# Altium footprint library Jump_254.PcbLib: 184 footprints (part 6 of 12)
Each footprint in its own frame and in the unit in brackets; x right, y up, seen from the top. Pads: shape width x height; smd on the part's side, far side on the other; paste and mask are expansions set on the pad; w line width, h text height; cw(c..) or ccw(c..) is an arc to the next point about the centre after c.
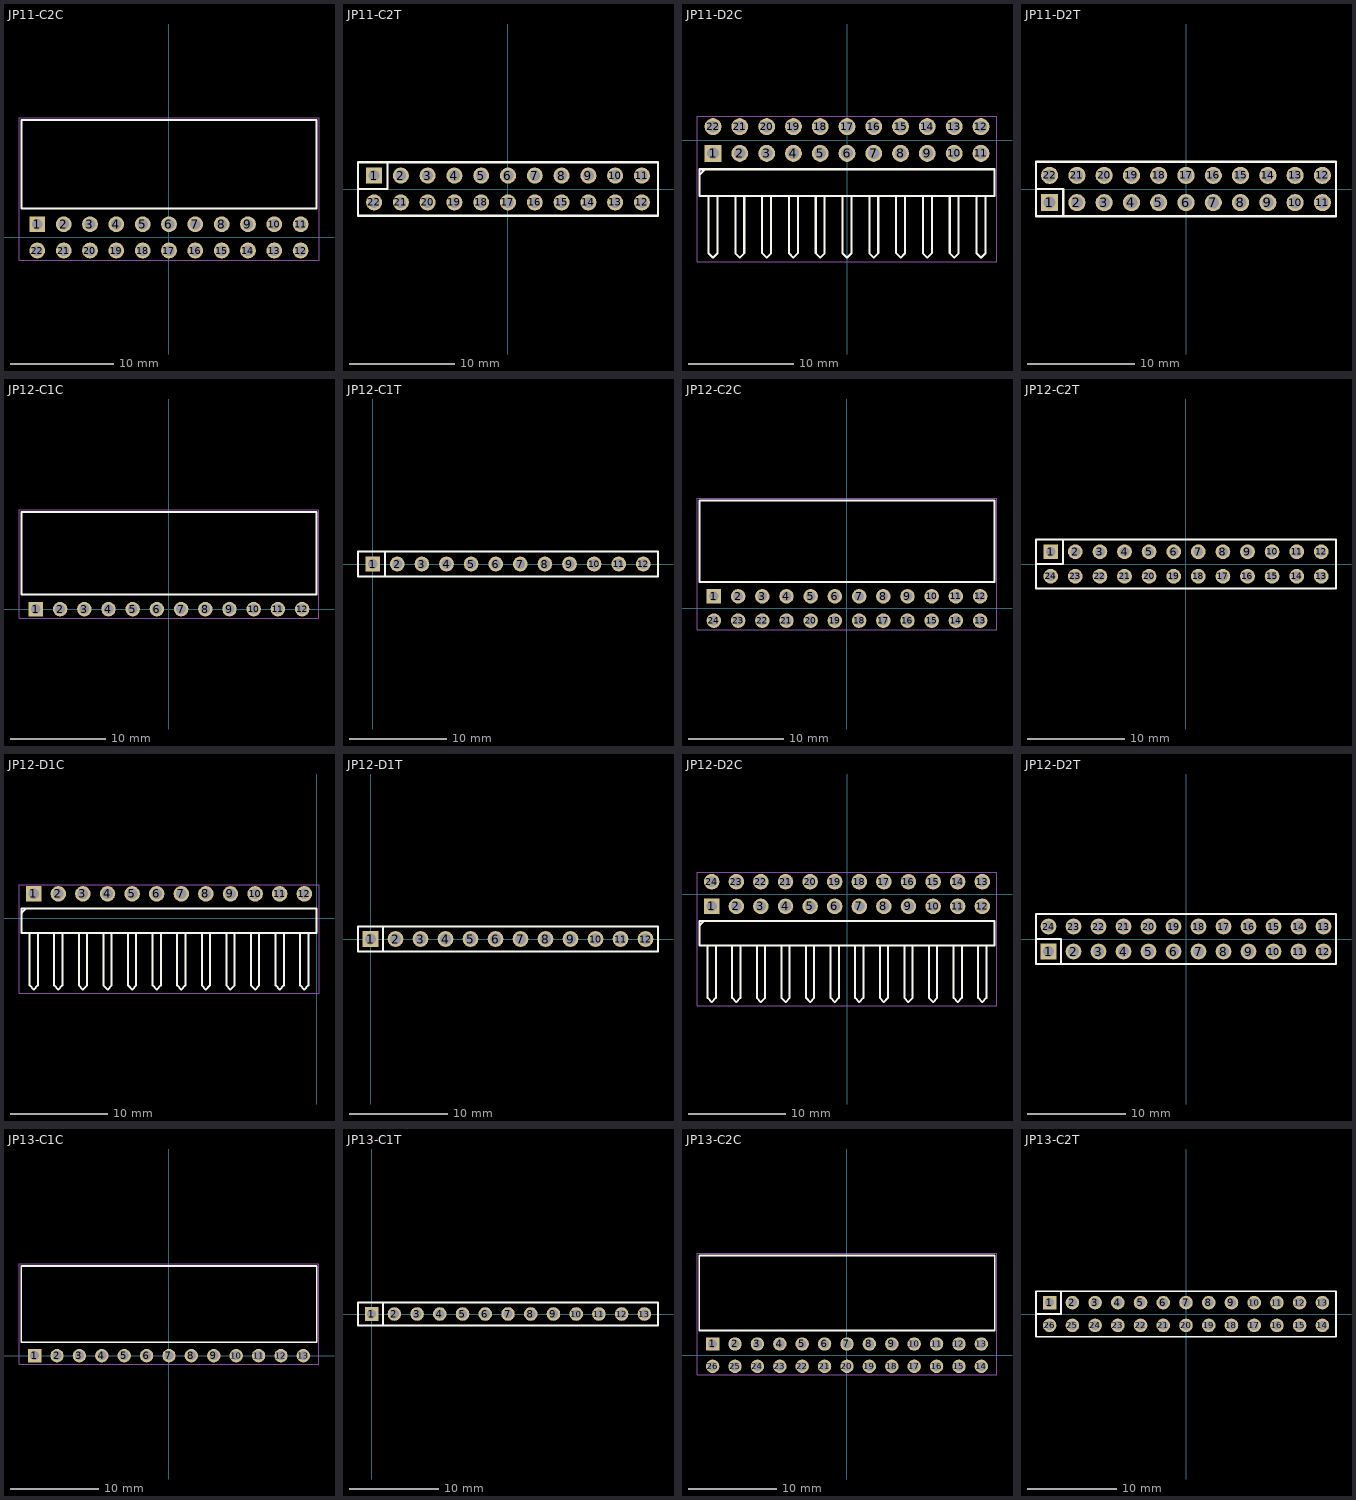
[diagram p5: the footprints below, top view; thin cyan lines are the x and y axes]

## JP11-C2C [mm] "22p 2 rows Right angle"
height 5.08
pads (22):
  rect 1.52x1.52 hole 1.02: 1(-12.7,1.27)
  round 1.52 hole 1.02: 2(-10.16,1.27) 3(-7.62,1.27) 4(-5.08,1.27) 5(-2.54,1.27) 6(0,1.27) 7(2.54,1.27) 8(5.08,1.27) 9(7.62,1.27) 10(10.16,1.27) 11(12.7,1.27) 12(12.7,-1.27) 13(10.16,-1.27) 14(7.62,-1.27) 15(5.08,-1.27) 16(2.54,-1.27) 17(0,-1.27) 18(-2.54,-1.27) 19(-5.08,-1.27) 20(-7.62,-1.27) 21(-10.16,-1.27) 22(-12.7,-1.27)
Top Overlay:
  lines w0.2: -14.224,2.794 14.224,2.794 14.224,11.316 -14.224,11.316 -14.224,2.794
Mechanical 15:
  lines w0.1: -14.47,-2.23 -14.47,11.566 14.474,11.566 14.474,-2.23 -14.47,-2.23
3D body "613022243121.stp": height 5.09, standoff -4.46, extent -14.22,-1.478 14.22,11.362

## JP11-C2T [mm] "22 pins, dual row, straight, gold plating"
height 8.5
pads (22):
  rect 1.52x1.52 hole 1.02: 1(-12.7,1.27)
  round 1.52 hole 1.02: 2(-10.16,1.27) 3(-7.62,1.27) 4(-5.08,1.27) 5(-2.54,1.27) 6(0,1.27) 7(2.54,1.27) 8(5.08,1.27) 9(7.62,1.27) 10(10.16,1.27) 11(12.7,1.27) 12(12.7,-1.27) 13(10.16,-1.27) 14(7.62,-1.27) 15(5.08,-1.27) 16(2.54,-1.27) 17(0,-1.27) 18(-2.54,-1.27) 19(-5.08,-1.27) 20(-7.62,-1.27) 21(-10.16,-1.27) 22(-12.7,-1.27)
Top Overlay:
  lines w0.2: -14.22,0 -11.43,0 -11.43,2.54 ; -14.22,-2.54 14.22,-2.54 14.22,2.54 -14.22,2.54 -14.22,-2.54
3D body "61302221821.stp": height 8.51, standoff -3.09, extent -14.22,-2.54 14.22,2.54

## JP11-D2C [mm] "22 pins, dual row, right angled, gold plating"
height 5.08
pads (22):
  rect 1.6x1.6 hole 1.1: 1(-12.7,-1.27)
  round 1.6 hole 1.1: 2(-10.16,-1.27) 3(-7.62,-1.27) 4(-5.08,-1.27) 5(-2.54,-1.27) 6(0,-1.27) 7(2.54,-1.27) 8(5.08,-1.27) 9(7.62,-1.27) 10(10.16,-1.27) 11(12.7,-1.27) 12(12.7,1.27) 13(10.16,1.27) 14(7.62,1.27) 15(5.08,1.27) 16(2.54,1.27) 17(0,1.27) 18(-2.54,1.27) 19(-5.08,1.27) 20(-7.62,1.27) 21(-10.16,1.27) 22(-12.7,1.27)
Top Overlay:
  lines w0.2: -13.928,-3.236 -13.504,-2.812 ; -13.123,-5.335 -13.123,-10.729 -12.7,-11.152 -12.277,-10.729 -12.277,-5.31 ; -10.583,-5.335 -10.583,-10.729 -10.16,-11.152 -9.737,-10.729 -9.737,-5.335 ; -8.043,-5.335 -8.043,-10.729 -7.62,-11.152 -7.197,-10.729 -7.197,-5.31 ; -5.503,-5.335 -5.503,-10.729 -5.08,-11.152 -4.657,-10.729 -4.657,-5.335 ; -2.963,-5.335 -2.963,-10.729 -2.54,-11.152 -2.117,-10.729 -2.117,-5.31 ; -0.423,-5.335 -0.423,-10.729 0,-11.152 0.423,-10.729 0.423,-5.335 ; 2.117,-5.335 2.117,-10.729 2.54,-11.152 2.963,-10.729 2.963,-5.31 ; 4.657,-5.335 4.657,-10.729 5.08,-11.152 5.503,-10.729 5.503,-5.335 ; 7.197,-5.335 7.197,-10.729 7.62,-11.152 8.043,-10.729 8.043,-5.31 ; 9.737,-5.335 9.737,-10.729 10.16,-11.152 10.583,-10.729 10.583,-5.335 ; 12.277,-5.335 12.277,-10.729 12.7,-11.152 13.123,-10.729 13.123,-5.31 ; -13.97,-5.31 13.97,-5.31 13.97,-2.77 -13.97,-2.77 -13.97,-5.31
Mechanical 15:
  lines w0.1: -14.22,-11.56 -14.22,2.27 14.22,2.27 14.22,-11.56 -14.22,-11.56
3D body "61302221021.stp": height 5.09, standoff -2.99, extent -13.97,-11.31 13.97,1.59

## JP11-D2T [mm] "22 pins, dual pin, straight, gold plating"
height 8.54
pads (22):
  rect 1.6x1.6 hole 1.1: 1(-12.7,-1.27)
  round 1.6 hole 1.1: 2(-10.16,-1.27) 3(-7.62,-1.27) 4(-5.08,-1.27) 5(-2.54,-1.27) 6(0,-1.27) 7(2.54,-1.27) 8(5.08,-1.27) 9(7.62,-1.27) 10(10.16,-1.27) 11(12.7,-1.27) 12(12.7,1.27) 13(10.16,1.27) 14(7.62,1.27) 15(5.08,1.27) 16(2.54,1.27) 17(0,1.27) 18(-2.54,1.27) 19(-5.08,1.27) 20(-7.62,1.27) 21(-10.16,1.27) 22(-12.7,1.27)
Top Overlay:
  lines w0.2: -13.97,0 -11.43,0 -11.43,-2.54 ; -13.97,-2.54 13.97,-2.54 13.97,2.54 -13.97,2.54 -13.97,-2.54
3D body "61302221121.stp": height 8.55, standoff -2.99, extent -13.97,-2.54 13.97,2.54

## JP12-C1C [mm] "12p 1 row Right angle"
height 2.5
pads (12):
  rect 1.52x1.52 hole 1.02: 1(-13.97,0)
  round 1.52 hole 1.02: 2(-11.43,0) 3(-8.89,0) 4(-6.35,0) 5(-3.81,0) 6(-1.27,0) 7(1.27,0) 8(3.81,0) 9(6.35,0) 10(8.89,0) 11(11.43,0) 12(13.97,0)
Top Overlay:
  lines w0.2: -15.494,1.524 -15.494,10.173 15.494,10.173 15.494,1.524 -15.494,1.524
Mechanical 15:
  lines w0.1: -15.74,-0.96 15.744,-0.96 15.744,10.423 -15.74,10.423 -15.74,-0.96
3D body "613012143121.stp": height 2.51, standoff -3.08, extent -15.49,-0.208 15.49,10.092

## JP12-C1T [mm] "12 row, straight, gold plating"
height 8.5
pads (12):
  rect 1.52x1.52 hole 1.02: 1(0,0)
  round 1.52 hole 1.02: 2(2.54,0) 3(5.08,0) 4(7.62,0) 5(10.16,0) 6(12.7,0) 7(15.24,0) 8(17.78,0) 9(20.32,0) 10(22.86,0) 11(25.4,0) 12(27.94,0)
Top Overlay:
  lines w0.2: 1.27,-1.27 1.27,1.27 ; -1.52,-1.27 29.46,-1.27 29.46,1.27 0.635,1.27 -1.52,1.27 -1.52,-1.27
3D body "61301211821.stp": height 8.51, standoff -3.09, extent -1.52,-1.25 29.46,1.25

## JP12-C2C [mm] "24p 2 rows Right angle"
height 5.08
pads (24):
  rect 1.52x1.52 hole 1.02: 1(-13.97,1.27)
  round 1.52 hole 1.02: 2(-11.43,1.27) 3(-8.89,1.27) 4(-6.35,1.27) 5(-3.81,1.27) 6(-1.27,1.27) 7(1.27,1.27) 8(3.81,1.27) 9(6.35,1.27) 10(8.89,1.27) 11(11.43,1.27) 12(13.97,1.27) 13(13.97,-1.27) 14(11.43,-1.27) 15(8.89,-1.27) 16(6.35,-1.27) 17(3.81,-1.27) 18(1.27,-1.27) 19(-1.27,-1.27) 20(-3.81,-1.27) 21(-6.35,-1.27) 22(-8.89,-1.27) 23(-11.43,-1.27) 24(-13.97,-1.27)
Top Overlay:
  lines w0.2: -15.494,2.794 15.494,2.794 15.494,11.316 -15.494,11.316 -15.494,2.794
Mechanical 15:
  lines w0.1: -15.74,-2.23 15.744,-2.23 15.744,11.566 -15.74,11.566 -15.74,-2.23
3D body "613024243121.stp": height 5.09, standoff -4.46, extent -15.49,-1.478 15.49,11.362

## JP12-C2T [mm] "24 pins, dual row, straight, gold plating"
height 8.5
pads (24):
  rect 1.52x1.52 hole 1.02: 1(-13.97,1.27)
  round 1.52 hole 1.02: 2(-11.43,1.27) 3(-8.89,1.27) 4(-6.35,1.27) 5(-3.81,1.27) 6(-1.27,1.27) 7(1.27,1.27) 8(3.81,1.27) 9(6.35,1.27) 10(8.89,1.27) 11(11.43,1.27) 12(13.97,1.27) 13(13.97,-1.27) 14(11.43,-1.27) 15(8.89,-1.27) 16(6.35,-1.27) 17(3.81,-1.27) 18(1.27,-1.27) 19(-1.27,-1.27) 20(-3.81,-1.27) 21(-6.35,-1.27) 22(-8.89,-1.27) 23(-11.43,-1.27) 24(-13.97,-1.27)
Top Overlay:
  lines w0.2: -15.49,0 -12.7,0 -12.7,2.54 ; -15.49,-2.54 -15.49,2.54 15.49,2.54 15.49,-2.54 -15.49,-2.54
3D body "61302421821.stp": height 8.51, standoff -3.09, extent -15.49,-2.54 15.49,2.54

## JP12-D1C [mm] "12 pins, 1 row, right angled, gold plating"
height 2.54
pads (12):
  rect 1.6x1.6 hole 1.1: 1(-29.21,2.54)
  round 1.6 hole 1.1: 2(-26.67,2.54) 3(-24.13,2.54) 4(-21.59,2.54) 5(-19.05,2.54) 6(-16.51,2.54) 7(-13.97,2.54) 8(-11.43,2.54) 9(-8.89,2.54) 10(-6.35,2.54) 11(-3.81,2.54) 12(-1.27,2.54)
Top Overlay:
  lines w0.2: -30.438,0.574 -30.014,0.998 ; -29.633,-1.525 -29.633,-6.919 -29.21,-7.342 -28.787,-6.919 -28.787,-1.5 ; -27.093,-1.525 -27.093,-6.919 -26.67,-7.342 -26.247,-6.919 -26.247,-1.525 ; -24.553,-1.525 -24.553,-6.919 -24.13,-7.342 -23.707,-6.919 -23.707,-1.5 ; -22.013,-1.525 -22.013,-6.919 -21.59,-7.342 -21.167,-6.919 -21.167,-1.525 ; -19.473,-1.525 -19.473,-6.919 -19.05,-7.342 -18.627,-6.919 -18.627,-1.5 ; -16.933,-1.525 -16.933,-6.919 -16.51,-7.342 -16.087,-6.919 -16.087,-1.525 ; -14.393,-1.525 -14.393,-6.919 -13.97,-7.342 -13.547,-6.919 -13.547,-1.5 ; -11.853,-1.525 -11.853,-6.919 -11.43,-7.342 -11.007,-6.919 -11.007,-1.525 ; -9.313,-1.525 -9.313,-6.919 -8.89,-7.342 -8.467,-6.919 -8.467,-1.5 ; -6.773,-1.525 -6.773,-6.919 -6.35,-7.342 -5.927,-6.919 -5.927,-1.525 ; -4.233,-1.525 -4.233,-6.919 -3.81,-7.342 -3.387,-6.919 -3.387,-1.5 ; -1.693,-1.525 -1.693,-6.919 -1.27,-7.342 -0.847,-6.919 -0.847,-1.525 ; -30.48,-1.5 -30.48,1.04 0,1.04 0,-1.5 -30.48,-1.5
Mechanical 15:
  lines w0.1: -30.73,-7.75 -30.73,3.5 0.25,3.5 0.25,-7.75 -30.73,-7.75
3D body "61301211021.stp": height 2.55, standoff -2.99, extent -30.48,-7.524 0,2.836

## JP12-D1T [mm] "12 pins, 1 row, straight, gold plating"
height 8.54
pads (12):
  rect 1.6x1.6 hole 1.1: 1(0,0)
  round 1.6 hole 1.1: 2(2.54,0) 3(5.08,0) 4(7.62,0) 5(10.16,0) 6(12.7,0) 7(15.24,0) 8(17.78,0) 9(20.32,0) 10(22.86,0) 11(25.4,0) 12(27.94,0)
Top Overlay:
  lines w0.2: 1.27,-1.27 1.27,1.27 ; -1.27,-1.27 -1.27,1.27 0.635,1.27 29.21,1.27 29.21,-1.27 -1.27,-1.27
3D body "61301211121.stp": height 8.54, standoff -3, extent -1.27,-1.27 29.21,1.27

## JP12-D2C [mm] "24 pins, dual row, right angled, gold plating"
height 5.08
pads (24):
  rect 1.6x1.6 hole 1.1: 1(-13.97,-1.27)
  round 1.6 hole 1.1: 2(-11.43,-1.27) 3(-8.89,-1.27) 4(-6.35,-1.27) 5(-3.81,-1.27) 6(-1.27,-1.27) 7(1.27,-1.27) 8(3.81,-1.27) 9(6.35,-1.27) 10(8.89,-1.27) 11(11.43,-1.27) 12(13.97,-1.27) 13(13.97,1.27) 14(11.43,1.27) 15(8.89,1.27) 16(6.35,1.27) 17(3.81,1.27) 18(1.27,1.27) 19(-1.27,1.27) 20(-3.81,1.27) 21(-6.35,1.27) 22(-8.89,1.27) 23(-11.43,1.27) 24(-13.97,1.27)
Top Overlay:
  lines w0.2: -15.198,-3.236 -14.774,-2.812 ; -14.393,-5.335 -14.393,-10.729 -13.97,-11.152 -13.547,-10.729 -13.547,-5.31 ; -11.853,-5.335 -11.853,-10.729 -11.43,-11.152 -11.007,-10.729 -11.007,-5.335 ; -9.313,-5.335 -9.313,-10.729 -8.89,-11.152 -8.467,-10.729 -8.467,-5.31 ; -6.773,-5.335 -6.773,-10.729 -6.35,-11.152 -5.927,-10.729 -5.927,-5.335 ; -4.233,-5.335 -4.233,-10.729 -3.81,-11.152 -3.387,-10.729 -3.387,-5.31 ; -1.693,-5.335 -1.693,-10.729 -1.27,-11.152 -0.847,-10.729 -0.847,-5.335 ; 0.847,-5.335 0.847,-10.729 1.27,-11.152 1.693,-10.729 1.693,-5.31 ; 3.387,-5.335 3.387,-10.729 3.81,-11.152 4.233,-10.729 4.233,-5.335 ; 5.927,-5.335 5.927,-10.729 6.35,-11.152 6.773,-10.729 6.773,-5.31 ; 8.467,-5.335 8.467,-10.729 8.89,-11.152 9.313,-10.729 9.313,-5.335 ; 11.007,-5.335 11.007,-10.729 11.43,-11.152 11.853,-10.729 11.853,-5.31 ; 13.547,-5.335 13.547,-10.729 13.97,-11.152 14.393,-10.729 14.393,-5.335 ; -15.24,-5.31 -15.24,-2.77 15.24,-2.77 15.24,-5.31 -15.24,-5.31
Mechanical 15:
  lines w0.1: -15.49,-11.56 15.49,-11.56 15.49,2.27 -15.49,2.27 -15.49,-11.56
3D body "61302421021.stp": height 5.09, standoff -2.99, extent -15.24,-11.376 15.24,1.524

## JP12-D2T [mm] "24 pins, dual pin, straight, gold plating"
height 8.54
pads (24):
  rect 1.6x1.6 hole 1.1: 1(-13.97,-1.27)
  round 1.6 hole 1.1: 2(-11.43,-1.27) 3(-8.89,-1.27) 4(-6.35,-1.27) 5(-3.81,-1.27) 6(-1.27,-1.27) 7(1.27,-1.27) 8(3.81,-1.27) 9(6.35,-1.27) 10(8.89,-1.27) 11(11.43,-1.27) 12(13.97,-1.27) 13(13.97,1.27) 14(11.43,1.27) 15(8.89,1.27) 16(6.35,1.27) 17(3.81,1.27) 18(1.27,1.27) 19(-1.27,1.27) 20(-3.81,1.27) 21(-6.35,1.27) 22(-8.89,1.27) 23(-11.43,1.27) 24(-13.97,1.27)
Top Overlay:
  lines w0.2: -15.24,0 -12.7,0 -12.7,-2.54 ; -15.24,-2.54 -15.24,2.54 15.24,2.54 15.24,-2.54 -15.24,-2.54
3D body "61302421121.stp": height 8.55, standoff -2.99, extent -15.24,-2.54 15.24,2.54

## JP13-C1C [mm] "13p 1 row Right angle"
height 2.5
pads (13):
  rect 1.52x1.52 hole 1.02: 1(-15.24,0)
  round 1.52 hole 1.02: 2(-12.7,0) 3(-10.16,0) 4(-7.62,0) 5(-5.08,0) 6(-2.54,0) 7(0,0) 8(2.54,0) 9(5.08,0) 10(7.62,0) 11(10.16,0) 12(12.7,0) 13(15.24,0)
Top Overlay:
  lines w0.2: -16.76,1.524 -16.76,10.173 16.764,10.173 16.764,1.524 -16.76,1.524
Mechanical 15:
  lines w0.1: -17.01,-0.96 17.014,-0.96 17.014,10.423 -17.01,10.423 -17.01,-0.96
3D body "613013143121.stp": height 2.51, standoff -3.08, extent -16.51,-0.208 16.51,10.092

## JP13-C1T [mm] "13 row, straight, gold plating"
height 8.5
pads (13):
  rect 1.52x1.52 hole 1.02: 1(0,0)
  round 1.52 hole 1.02: 2(2.54,0) 3(5.08,0) 4(7.62,0) 5(10.16,0) 6(12.7,0) 7(15.24,0) 8(17.78,0) 9(20.32,0) 10(22.86,0) 11(25.4,0) 12(27.94,0) 13(30.48,0)
Top Overlay:
  lines w0.2: -1.52,-1.25 -1.52,1.27 32,1.27 32,-1.27 -1.504,-1.27 ; 1.27,-1.27 1.27,1.27
3D body "61301311821.stp": height 8.51, standoff -3.09, extent -1.524,-1.25 31.496,1.25

## JP13-C2C [mm] "26p 2 rows Right angle"
height 5.08
pads (26):
  rect 1.52x1.52 hole 1.02: 1(-15.24,1.27)
  round 1.52 hole 1.02: 2(-12.7,1.27) 3(-10.16,1.27) 4(-7.62,1.27) 5(-5.08,1.27) 6(-2.54,1.27) 7(0,1.27) 8(2.54,1.27) 9(5.08,1.27) 10(7.62,1.27) 11(10.16,1.27) 12(12.7,1.27) 13(15.24,1.27) 14(15.24,-1.27) 15(12.7,-1.27) 16(10.16,-1.27) 17(7.62,-1.27) 18(5.08,-1.27) 19(2.54,-1.27) 20(0,-1.27) 21(-2.54,-1.27) 22(-5.08,-1.27) 23(-7.62,-1.27) 24(-10.16,-1.27) 25(-12.7,-1.27) 26(-15.24,-1.27)
Top Overlay:
  lines w0.2: -16.76,2.794 -16.76,11.316 16.764,11.316 16.764,2.794 -16.76,2.794
Mechanical 15:
  lines w0.1: -17.01,-2.23 -17.01,11.566 17.014,11.566 17.014,-2.23 -17.01,-2.23
3D body "613026243121.stp": height 5.09, standoff -4.46, extent -16.76,-1.478 16.76,11.362

## JP13-C2T [mm] "26 pins, dual row, straight, gold plating"
height 8.5
pads (26):
  rect 1.52x1.52 hole 1.02: 1(-15.24,1.27)
  round 1.52 hole 1.02: 2(-12.7,1.27) 3(-10.16,1.27) 4(-7.62,1.27) 5(-5.08,1.27) 6(-2.54,1.27) 7(0,1.27) 8(2.54,1.27) 9(5.08,1.27) 10(7.62,1.27) 11(10.16,1.27) 12(12.7,1.27) 13(15.24,1.27) 14(15.24,-1.27) 15(12.7,-1.27) 16(10.16,-1.27) 17(7.62,-1.27) 18(5.08,-1.27) 19(2.54,-1.27) 20(0,-1.27) 21(-2.54,-1.27) 22(-5.08,-1.27) 23(-7.62,-1.27) 24(-10.16,-1.27) 25(-12.7,-1.27) 26(-15.24,-1.27)
Top Overlay:
  lines w0.2: -16.764,0 -13.97,0 -13.97,2.54 ; 16.76,-2.54 16.76,2.54 ; 16.764,-2.54 -16.76,-2.54 -16.76,2.54 16.764,2.54
3D body "61302621821.stp": height 8.51, standoff -3.09, extent -16.764,-2.54 16.256,2.54